# Altium schematic symbol library DB-371.SchLib: 1 symbol
Pins are listed as number, name and electrical type; pins without a type are passive.

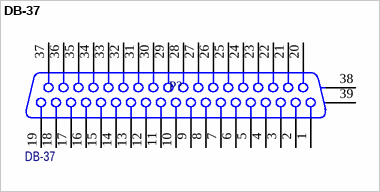
[diagram p0: symbol DB-37]

## DB-37
designator P?
5747375-8, Разъем D Sub, DB37, Standard, Штекер, AMPLIMITE HD-20 Series, 37 контакт(-ов), DC, Пайка; Назначение: D Sub Connector, 37 pins; Потребление, Вт: 0,00; Part Number: DB-37; Наименование: DB-37
footprint DB - 37
pins: 1, 2, 3, 4, 5, 6, 7, 8, 9, 10, 11, 12, 13, 14, 15, 16, 17, 18, 19, 20, 21, 22, 23, 24, 25, 26, 27, 28, 29, 30, 31, 32, 33, 34, 35, 36, 37, 38, 39 MH1